# EAGLE library part LCD_16X2 (library lcdmodules2)
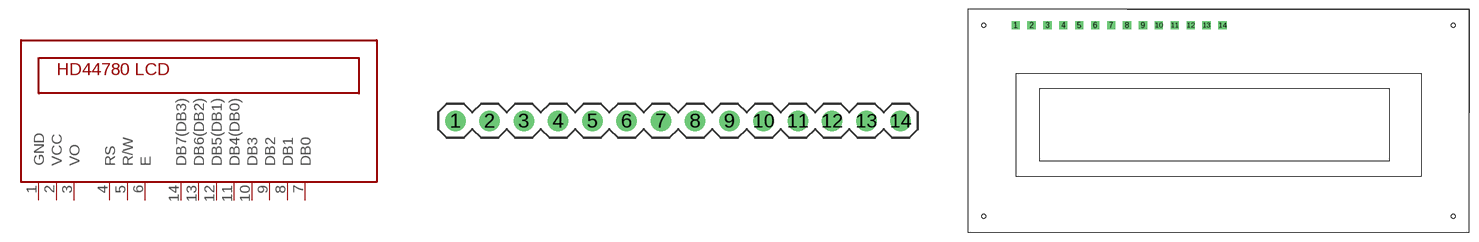
[diagram p1: symbol with the pads of HEADER_14; footprints HEADER_14, LCD_16X2]

Designator prefix -

## LCD_16X2  [HEADER_14]
1  GND  pwr
2  VCC  pwr
3  VO  pwr
4  RS
5  R/W
6  E
7  DB0
8  DB1
9  DB2
10  DB3
11  DB4(DB0)
12  DB5(DB1)
13  DB6(DB2)
14  DB7(DB3)

## LCD_16X2_FLAT  [LCD_16X2]
Pads as for HEADER_14

## Footprint HEADER_14 (pad centres in mm)
drill 1.016: 1 0,0; 2 2.54,0; 3 5.08,0; 4 7.62,0; 5 10.16,0; 6 12.7,0; 7 15.24,0; 8 17.78,0; 9 20.32,0; 10 22.86,0; 11 25.4,0; 12 27.94,0; 13 30.48,0; 14 33.02,0

## Footprint LCD_16X2 (pad centres in mm)
drill 0.8 square: 1 0,0; 2 2.54,0; 3 5.08,0; 4 7.62,0; 5 10.16,0; 6 12.7,0; 7 15.24,0; 8 17.78,0; 9 20.32,0; 10 22.86,0; 11 25.4,0; 12 27.94,0; 13 30.48,0; 14 33.02,0
hole 0.6 at -5.08,0
hole 0.6 at -5.08,-30.48
hole 0.6 at 69.85,0
hole 0.6 at 69.85,-30.48